# Altium schematic symbol library RadioLampLibrary.SchLib: 1 symbol
Pins are listed as number, name and electrical type; pins without a type are passive.

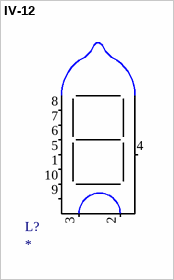
[diagram p0: symbol IV-12]

## IV-12
designator L?
footprint IV-12
footprint IV-11
pins: 1 SEG_E, 2 Catode, 3 Catode_int, 4 Grid, 5 SEG_D, 6 SEG_C, 7 SEG_B, 8 SEG_A, 9 SEG_G, 10 SEG_F